# Altium footprint library MODEM_R2_2.PcbLib: 23 footprints (part 1 of 2)
Each footprint in its own frame and in the unit in brackets; x right, y up, seen from the top. Pads: shape width x height; smd on the part's side, far side on the other; paste and mask are expansions set on the pad; w line width, h text height; cw(c..) or ccw(c..) is an arc to the next point about the centre after c.
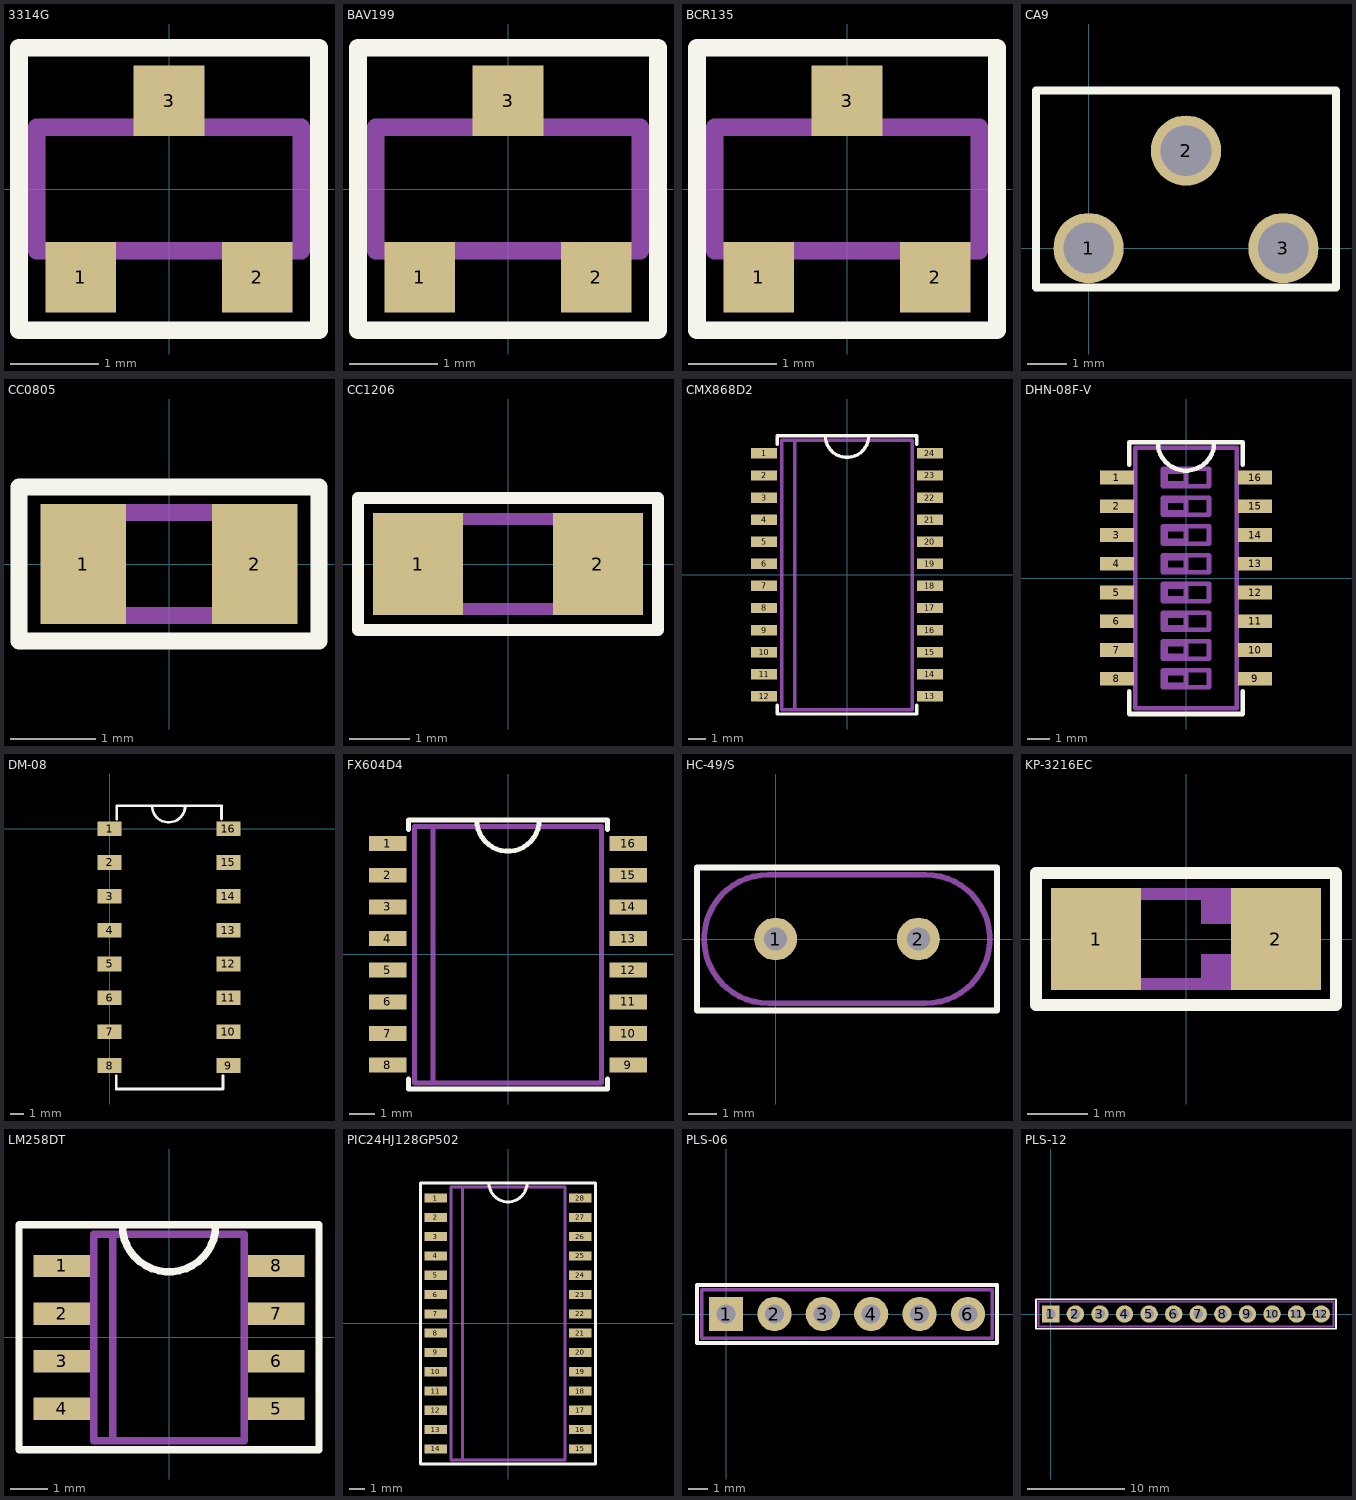
[diagram p0: the footprints below, top view; thin cyan lines are the x and y axes]

## 3314G [mm]
height 1
pads (3):
  rect 0.8x0.8 smd: 1(-1,-1) 2(1,-1) 3(0,1)
Top Overlay:
  lines w0.2: -1.7,-1.6 1.7,-1.6 1.7,1.6 -1.7,1.6 -1.7,-1.6
Mechanical 1:
  lines w0.2: -1,-1.2 -1,-0.7 ; 0,0.7 0,1.2 ; 1,-1.2 1,-0.7 ; -1.5,-0.7 -1.5,0.7 1.5,0.7 1.5,-0.7 -1.5,-0.7

## BAV199 [mm]
height 1
pads (3):
  rect 0.8x0.8 smd: 1(-1,-1) 2(1,-1) 3(0,1)
Top Overlay:
  lines w0.2: -1.7,-1.6 1.7,-1.6 1.7,1.6 -1.7,1.6 -1.7,-1.6
Mechanical 1:
  lines w0.2: -1,-1.2 -1,-0.7 ; 0,0.7 0,1.2 ; 1,-1.2 1,-0.7 ; -1.5,-0.7 -1.5,0.7 1.5,0.7 1.5,-0.7 -1.5,-0.7

## BCR135 [mm]
height 1
pads (3):
  rect 0.8x0.8 smd: 1(-1,-1) 2(1,-1) 3(0,1)
Top Overlay:
  lines w0.2: -1.7,-1.6 1.7,-1.6 1.7,1.6 -1.7,1.6 -1.7,-1.6
Mechanical 1:
  lines w0.2: -1,-1.2 -1,-0.7 ; 0,0.7 0,1.2 ; 1,-1.2 1,-0.7 ; -1.5,-0.7 -1.5,0.7 1.5,0.7 1.5,-0.7 -1.5,-0.7

## CA9 [mm]
height 1
pads (3):
  round 1.8 hole 1.3: 1(0,0) 2(2.5,2.5) 3(5,0)
Top Overlay:
  lines w0.2: -1.35,-1.01 -1.35,4.04 6.35,4.04 6.35,-1.01 -1.35,-1.01

## CC0805 [mm]
height 0.8
pads (2):
  rect 1x1.4 smd: 1(-1,0) 2(1,0)
Top Overlay:
  lines w0.2: -1.75,-0.9 -1.75,0.9 1.75,0.9 1.75,-0.9 -1.75,-0.9
Mechanical 1:
  lines w0.2: -1,-0.6 -0.9,-0.6 0.6,-0.6 1,-0.6 1,0.6 -1,0.6 -1,-0.6

## CC1206 [mm]
height 1
pads (2):
  rect 1.5x1.7 smd: 1(-1.5,0) 2(1.5,0)
Top Overlay:
  lines w0.2: -2.5,-1.1 2.5,-1.1 2.5,1.1 -2.5,1.1 -2.5,-1.1
Mechanical 1:
  lines w0.2: -1.5,-0.75 1.5,-0.75 1.5,0.75 -1.5,0.75 -1.5,-0.75

## CMX868D2 [mm]
height 2
pads (24):
  rect 1.5x0.6 smd: 1(-4.763,6.985) 2(-4.763,5.715) 3(-4.763,4.445) 4(-4.763,3.175) 5(-4.763,1.905) 6(-4.763,0.635) 7(-4.763,-0.635) 8(-4.763,-1.905) 9(-4.763,-3.175) 10(-4.763,-4.445) 11(-4.763,-5.715) 12(-4.763,-6.985) 13(4.763,-6.985) 14(4.763,-5.715) 15(4.763,-4.445) 16(4.763,-3.175) 17(4.763,-1.905) 18(4.763,-0.635) 19(4.763,0.635) 20(4.763,1.905) 21(4.763,3.175) 22(4.763,4.445) 23(4.763,5.715) 24(4.763,6.985)
Top Overlay:
  lines w0.2: -4,-7.5 -4,-8 4,-8 4,-7.5 ; -4,7.5 -4,8 4,8 4,7.5 ; -1.25,8 ccw(c0,8) 1.25,8
Mechanical 1:
  lines w0.2: -3.009,-7.75 -3.009,7.75 ; -3.75,-7.75 -3.75,7.75 3.75,7.75 3.75,-7.75 -3.75,-7.75

## DHN-08F-V [mm]
height 1.5
pads (16):
  rect 1.5x0.6 smd: 1(-3.048,4.445) 2(-3.048,3.175) 3(-3.048,1.905) 4(-3.048,0.635) 5(-3.048,-0.635) 6(-3.048,-1.905) 7(-3.048,-3.175) 8(-3.048,-4.445) 9(3.048,-4.445) 10(3.048,-3.175) 11(3.048,-1.905) 12(3.048,-0.635) 13(3.048,0.635) 14(3.048,1.905) 15(3.048,3.175) 16(3.048,4.445)
Top Overlay:
  lines w0.2: -2.5,-5 -2.5,-6 2.5,-6 2.5,-5 ; -2.5,5 -2.5,6 2.5,6 2.5,5 ; -1.25,6 ccw(c0,6) 1.25,6
Mechanical 1:
  lines w0.2: -2.25,-5.75 2.25,-5.75 2.25,5.75 -2.25,5.75 -2.25,-5.75 ; -1.016,-4.826 -1.016,-4.064 1.016,-4.064 1.016,-4.826 -1.016,-4.826 ; -1.016,-3.556 -1.016,-2.794 1.016,-2.794 1.016,-3.556 -1.016,-3.556 ; -1.016,-2.286 -1.016,-1.524 1.016,-1.524 1.016,-2.286 -1.016,-2.286 ; -1.016,-1.016 -1.016,-0.254 1.016,-0.254 1.016,-1.016 -1.016,-1.016 ; -1.016,0.254 -1.016,1.016 1.016,1.016 1.016,0.254 -1.016,0.254 ; -1.016,1.524 -1.016,2.286 1.016,2.286 1.016,1.524 -1.016,1.524 ; -1.016,2.794 -1.016,3.556 1.016,3.556 1.016,2.794 -1.016,2.794 ; -1.016,4.064 1.016,4.064 1.016,4.826 -1.016,4.826 -1.016,4.064 ; -0.889,-4.699 -0.889,-4.191 0,-4.191 0,-4.699 -0.889,-4.699 ; -0.889,-3.429 -0.889,-2.921 0,-2.921 0,-3.429 -0.889,-3.429 ; -0.889,-2.159 -0.889,-1.651 0,-1.651 0,-2.159 -0.889,-2.159 ; -0.889,-0.889 -0.889,-0.381 0,-0.381 0,-0.889 -0.889,-0.889 ; -0.889,0.381 -0.889,0.889 0,0.889 0,0.381 -0.889,0.381 ; -0.889,1.651 -0.889,2.159 0,2.159 0,1.651 -0.889,1.651 ; -0.889,2.921 -0.889,3.429 0,3.429 0,2.921 -0.889,2.921 ; -0.889,4.191 0,4.191 0,4.699 -0.889,4.699 -0.889,4.191

## DM-08 [mm]
height 1.5
pads (16):
  rect 1.8x1.1 smd: 1(0,0) 2(0,-2.54) 3(0,-5.08) 4(0,-7.62) 5(0,-10.16) 6(0,-12.7) 7(0,-15.24) 8(0,-17.78) 9(8.9,-17.78) 10(8.9,-15.24) 11(8.9,-12.7) 12(8.9,-10.16) 13(8.9,-7.62) 14(8.9,-5.08) 15(8.9,-2.54) 16(8.9,0)
Top Overlay:
  lines w0.2: 0.48,-18.54 0.48,-19.54 8.5,-19.54 8.5,-18.54 ; 0.52,0.72 0.52,1.72 8.39,1.72 8.39,0.72 ; 3.17,1.72 ccw(c4.42,1.72) 5.67,1.72

## FX604D4 [mm]
height 1.5
pads (16):
  rect 1.5x0.6 smd: 1(-4.826,4.445) 2(-4.826,3.175) 3(-4.826,1.905) 4(-4.826,0.635) 5(-4.826,-0.635) 6(-4.826,-1.905) 7(-4.826,-3.175) 8(-4.826,-4.445) 9(4.826,-4.445) 10(4.826,-3.175) 11(4.826,-1.905) 12(4.826,-0.635) 13(4.826,0.635) 14(4.826,1.905) 15(4.826,3.175) 16(4.826,4.445)
Top Overlay:
  lines w0.2: -4,-5 -4,-5.4 4,-5.4 4,-5 ; -4,5 -4,5.385 4,5.385 4,5 ; -1.25,5.385 ccw(c0,5.385) 1.25,5.385
Mechanical 1:
  lines w0.2: -3,-5.15 -3,5.135 ; -3.75,-5.15 3.75,-5.15 3.75,5.135 -3.75,5.135 -3.75,-5.15

## HC-49/S [mm]
height 3.5
pads (2):
  round 1.5 hole 0.8: 1(0,0) 2(5,0)
Top Overlay:
  lines w0.2: -2.75,-2.5 7.75,-2.5 7.75,2.5 -2.75,2.5 -2.75,-2.5
Mechanical 1:
  lines w0.2: -0.25,-2.25 cw(c-0.25,0) -0.25,2.25 5.25,2.25 cw(c5.25,0) 5.25,-2.25 -0.25,-2.25

## KP-3216EC [mm]
height 1.1
pads (2):
  rect 1.5x1.7 smd: 1(-1.5,0) 2(1.5,0)
Top Overlay:
  lines w0.2: -2.5,-1.1 2.5,-1.1 2.5,1.1 -2.5,1.1 -2.5,-1.1
Mechanical 1:
  rectangle: 0.25,0.25 0.75,0.75
  rectangle: 0.25,-0.75 0.75,-0.25
  lines w0.2: -1.5,-0.75 1.5,-0.75 1.5,0.75 -1.5,0.75 -1.5,-0.75

## LM258DT [mm]
height 1.5
pads (8):
  rect 1.5x0.6 smd: 1(-2.857,1.905) 2(-2.857,0.635) 3(-2.857,-0.635) 4(-2.857,-1.905) 5(2.857,-1.905) 6(2.857,-0.635) 7(2.857,0.635) 8(2.857,1.905)
Top Overlay:
  lines w0.2: -1.25,3 ccw(c0,3) 1.25,3 ; -4,-3 4,-3 4,3 -4,3 -4,-3
Mechanical 1:
  lines w0.2: -1.5,-2.75 -1.5,2.75 ; -2,-2.75 2,-2.75 2,2.75 -2,2.75 -2,-2.75

## PIC24HJ128GP502 [mm]
height 2
pads (28):
  rect 1.5x0.6 smd: 1(-4.763,8.255) 2(-4.763,6.985) 3(-4.763,5.715) 4(-4.763,4.445) 5(-4.763,3.175) 6(-4.763,1.905) 7(-4.763,0.635) 8(-4.763,-0.635) 9(-4.763,-1.905) 10(-4.763,-3.175) 11(-4.763,-4.445) 12(-4.763,-5.715) 13(-4.763,-6.985) 14(-4.763,-8.255) 15(4.763,-8.255) 16(4.763,-6.985) 17(4.763,-5.715) 18(4.763,-4.445) 19(4.763,-3.175) 20(4.763,-1.905) 21(4.763,-0.635) 22(4.763,0.635) 23(4.763,1.905) 24(4.763,3.175) 25(4.763,4.445) 26(4.763,5.715) 27(4.763,6.985) 28(4.763,8.255)
Top Overlay:
  lines w0.2: -1.25,9.25 ccw(c0,9.25) 1.25,9.25 ; -5.75,-9.25 5.75,-9.25 5.75,9.25 -5.75,9.25 -5.75,-9.25
Mechanical 1:
  lines w0.2: -3.009,-9 -3.009,9 ; -3.75,-9 3.75,-9 3.75,9 -3.75,9 -3.75,-9

## PLS-06 [mm]
height 10
pads (6):
  rect 1.8x1.8 hole 1: 1(0,0)
  round 1.8 hole 1: 2(2.54,0) 3(5.08,0) 4(7.62,0) 5(10.16,0) 6(12.7,0)
Top Overlay:
  lines w0.2: -1.524,-1.524 -1.524,1.524 14.224,1.524 14.224,-1.524 -1.524,-1.524
Mechanical 1:
  lines w0.2: -1.27,-1.27 13.97,-1.27 13.97,1.27 -1.27,1.27 -1.27,-1.27

## PLS-12 [mm]
height 10
pads (12):
  rect 1.8x1.8 hole 1: 1(0,0)
  round 1.8 hole 1: 2(2.54,0) 3(5.08,0) 4(7.62,0) 5(10.16,0) 6(12.7,0) 7(15.24,0) 8(17.78,0) 9(20.32,0) 10(22.86,0) 11(25.4,0) 12(27.94,0)
Top Overlay:
  lines w0.2: -1.524,-1.524 -1.524,1.524 29.464,1.524 29.464,-1.524 -1.524,-1.524
Mechanical 1:
  lines w0.2: -1.27,-1.27 29.21,-1.27 29.21,1.27 -1.27,1.27 -1.27,-1.27